# Altium footprint library keypad.PcbLib: 1 footprints
Each footprint in its own frame and in the unit in brackets; x right, y up, seen from the top. Pads: shape width x height; smd on the part's side, far side on the other; paste and mask are expansions set on the pad; w line width, h text height; cw(c..) or ccw(c..) is an arc to the next point about the centre after c.
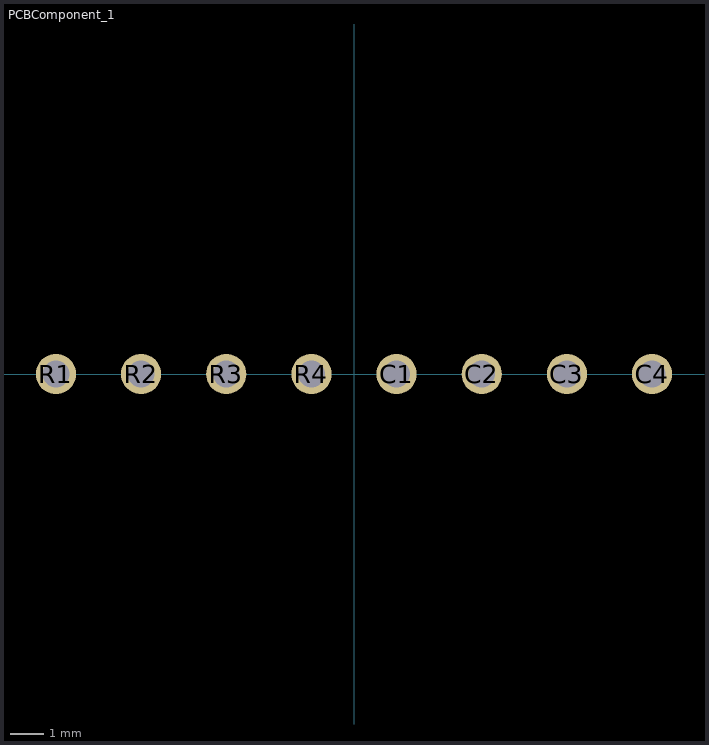
[diagram p0: the footprint, top view; thin cyan lines are the x and y axes]

## PCBComponent_1 [mm]
pads (8):
  round 1.2 hole 0.8: C1(1.27,0) C2(3.81,0) C3(6.35,0) C4(8.89,0) R1(-8.89,0) R2(-6.35,0) R3(-3.81,0) R4(-1.27,0)